# Altium schematic symbol library BS05XXS-1WR3.SCHLIB: 1 symbol
Pins are listed as number, name and electrical type; pins without a type are passive.

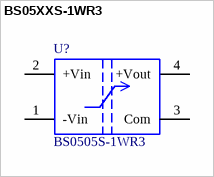
[diagram p0: symbol BS05XXS-1WR3]

## BS05XXS-1WR3
designator U?, comment BS0505S-1WR3
Single unregulated DC-DC Converter; Назначение: DC DC преобразователь; Потребление, Вт: 0,2; Наименование: BS0505S-1WR3
footprint P6AU-XXXXE
pins: 1 -Vin (power), 2 +Vin (power), 3 Com (power), 4 +Vout (power)